# Altium schematic symbol library SHT41-AD1B-R2.SchLib: 2 symbols
Pins are listed as number, name and electrical type; pins without a type are passive.

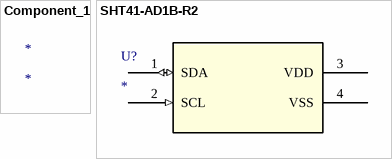
[diagram p0: symbols Component_1 to SHT41-AD1B-R2]

## Component_1
designator *

## SHT41-AD1B-R2
designator U?
No Description Available; Mfr_Name: Sensirion; RefDes: RefDes; Type: Type
footprint DFN4_SHT41_SEN
pins: 1 SDA (io), 2 SCL (in), 3 VDD (power), 4 VSS (power)